# Altium footprint library Molex KK(2.54).100.PcbLib: 4 footprints
Each footprint in its own frame and in the unit in brackets; x right, y up, seen from the top. Pads: shape width x height; smd on the part's side, far side on the other; paste and mask are expansions set on the pad; w line width, h text height; cw(c..) or ccw(c..) is an arc to the next point about the centre after c.
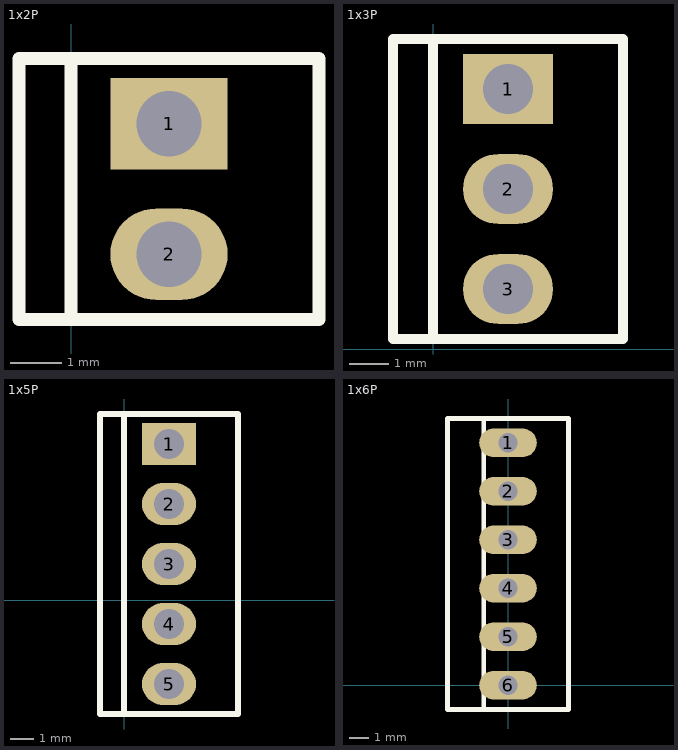
[diagram p0: the footprints below, top view; thin cyan lines are the x and y axes]

## 1x2P [mil] "1x2P 1 2.54mm Male pin 2 Straight Plugin,P=2.54mm Wire To Board / Wire To Wire Connector ROHS"
pads (2):
  rect 90x70 hole 50: 1(75,260)
  oval 90x70 hole 50: 2(75,160)
Top Overlay:
  lines w10: 0,110 0,310 ; -40,110 -40,310 190,310 190,110 -40,110

## 1x3P [mil] "1x3P 1 2.54mm Male pin 3 Straight Plugin,P=2.54mm Wire To Board / Wire To Wire Connector ROHS"
pads (3):
  rect 90x70 hole 50: 1(75,260)
  oval 90x70 hole 50: 2(75,160) 3(75,60)
Top Overlay:
  lines w10: 0,10 0,310 ; -40,10 -40,310 190,310 190,10 -40,10
3D body "Molex Conn Header Vert 3Pos 2,54mm KK.stp": height 422.5, standoff -137.5, extent -53,10 197,310

## 1x5P [mil] "1x5P 1 2.54mm Male pin 5 Straight Plugin,P=2.54mm Wire To Board / Wire To Wire Connector ROHS"
pads (5):
  rect 90x70 hole 50: 1(75,260)
  oval 90x70 hole 50: 2(75,160) 3(75,60) 4(75,-40) 5(75,-140)
Top Overlay:
  lines w10: 0,-190 0,310 ; -40,-190 190,-190 190,310 -40,310 -40,-190
3D body "Molex Conn Header Vert 5Pos 2,54mm KK.stp": height 422.5, standoff -137.5, extent -53,-190 197,310

## 1x6P [mm]
pads (6):
  oval 3.016x1.508 hole 1: 1(0,12.7) 2(0,10.16) 3(0,7.62) 4(0,5.08) 5(0,2.54) 6(0,0)
Top Overlay:
  lines w0.254: -1.27,-1.27 3.175,-1.27 3.175,13.97 -1.27,13.97 ; -1.27,-1.27 -3.175,-1.27 -3.175,13.97 -1.27,13.97 ; -1.27,-1.27 -1.27,13.97
3D body "Molex Conn Header Vert 6Pos 2,54mm KK.stp": height 10.68, standoff -3.54, extent -3.175,-1.27 3.175,13.97